# Altium footprint library WSON.PcbLib: 1 footprints
Each footprint in its own frame and in the unit in brackets; x right, y up, seen from the top. Pads: shape width x height; smd on the part's side, far side on the other; paste and mask are expansions set on the pad; w line width, h text height; cw(c..) or ccw(c..) is an arc to the next point about the centre after c.
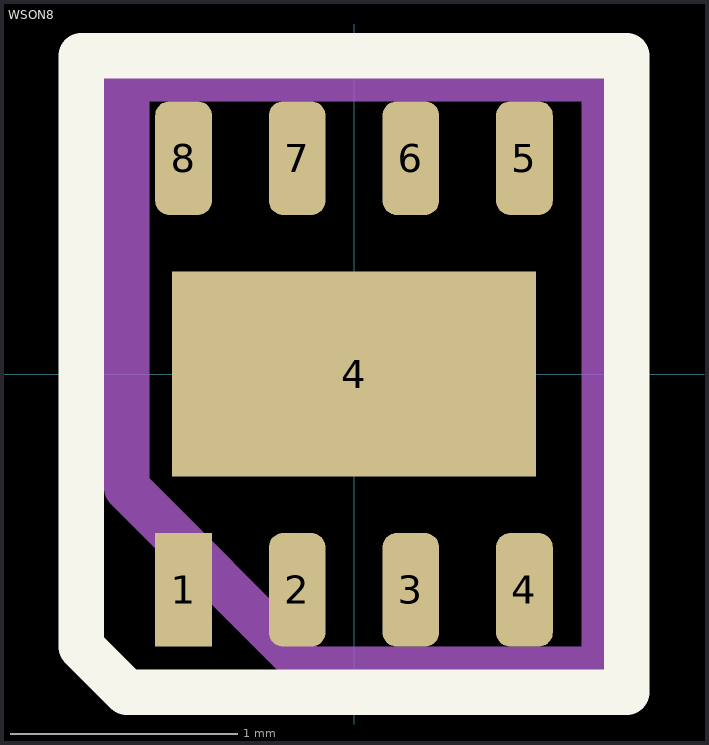
[diagram p0: the footprint, top view; thin cyan lines are the x and y axes]

## WSON8 [mm]
pads (9):
  rect 0.25x0.5 smd mask+0.05: 1(-0.75,-0.95)
  rrect50% 0.25x0.5 smd mask+0.05: 2(-0.25,-0.95) 3(0.25,-0.95) 4(0.75,-0.95) 5(0.75,0.95) 6(0.25,0.95) 7(-0.25,0.95) 8(-0.75,0.95)
  rect 1.6x0.9 smd mask+0.05: 4(0,0)
Top Overlay:
  lines w0.2: -1.2,-1.2 -1,-1.4 1.2,-1.4 1.2,1.4 -1.2,1.4 -1.2,-1.2
TopAssy:
  lines w0.2: -1,-0.5 -1,1.3 1.1,1.3 1.1,-1.3 -0.2,-1.3 -1,-0.5
  text ".Designator" at -0.4,-0.4 h1.52
3D body "DSG8_1P6X0P9.step": height 0.54, standoff 0, extent -1.054,-1.054 1.054,1.054